# EAGLE library part DS3231 (library Underwater-Camera-v2.0)
The DS3231 is a low-cost, extremely accurate I2C real-time clock (RTC) with an integrated temperaturecompensated crystal oscillator (TCXO) and crystal.
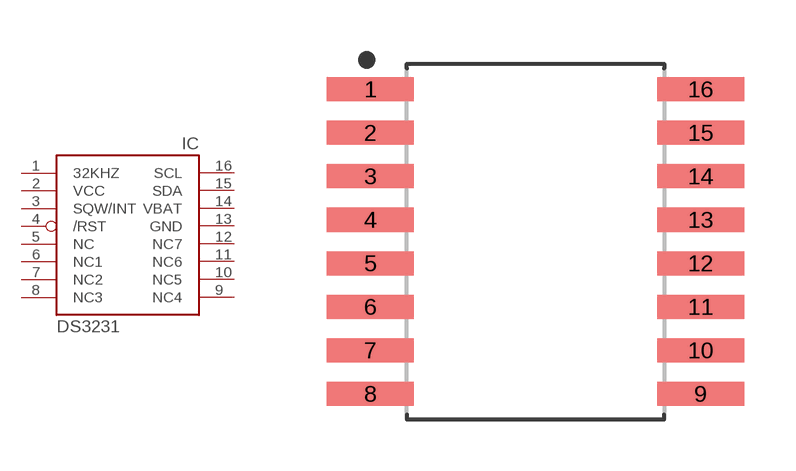
[diagram p5: symbol with the pads of SOIC127P1135X265-16; footprint SOIC127P1135X265-16]

Designator prefix IC

## DS3231SOIC-16  [SOIC127P1135X265-16]
1  32KHZ  out
2  VCC  pwr
3  SQW/INT  out
4  /RST  pas
5  NC
6  NC1
7  NC2
8  NC3
9  NC4
10  NC5
11  NC6
12  NC7
13  GND  pwr
14  VBAT  pwr
15  SDA
16  SCL

## Footprint SOIC127P1135X265-16 (pad centres in mm)
16-SOIC, 1.27 mm pitch, 11.35 mm span, 10.38 X 7.50 X 2.65 mm body 16-pin SOIC package with 1.27 mm pitch, 11.35 mm span with body size 10.38 X 7.50 X 2.65 mm
smd 2.538 x 0.702: 1 -4.812,4.445; 2 -4.812,3.175; 3 -4.812,1.905; 4 -4.812,0.635; 5 -4.812,-0.635; 6 -4.812,-1.905; 7 -4.812,-3.175; 8 -4.812,-4.445; 9 4.812,-4.445; 10 4.812,-3.175; 11 4.812,-1.905; 12 4.812,-0.635; 13 4.812,0.635; 14 4.812,1.905; 15 4.812,3.175; 16 4.812,4.445